# Altium footprint library fci-ffc-fpc.PcbLib: 4 footprints
Each footprint in its own frame and in the unit in brackets; x right, y up, seen from the top. Pads: shape width x height; smd on the part's side, far side on the other; paste and mask are expansions set on the pad; w line width, h text height; cw(c..) or ccw(c..) is an arc to the next point about the centre after c.
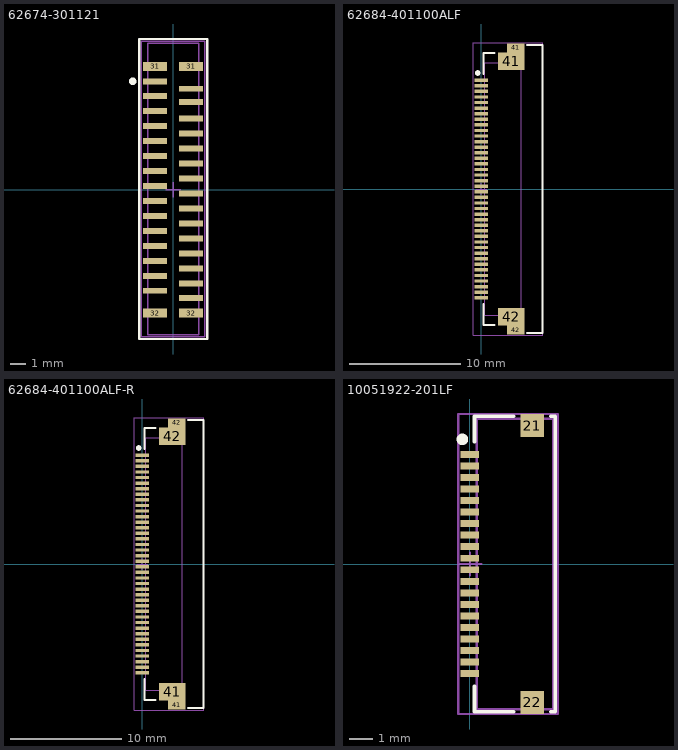
[diagram p0: the footprints below, top view; thin cyan lines are the x and y axes]

## 62674-301121 [mm] "0.5mm pitch Connector for FPC - 30 contacts"
height 1.3
pads (34):
  rect 1.6x0.4 smd: 1(-1.2,7.25) 2(1.2,6.75) 3(-1.2,6.25) 4(1.2,5.85) 5(-1.2,5.25) 6(1.2,4.75) 7(-1.2,4.25) 8(1.2,3.75) 9(-1.2,3.25) 10(1.2,2.75) 11(-1.2,2.25) 12(1.2,1.75) 13(-1.2,1.25) 14(1.2,0.75) 15(-1.2,0.25) 16(1.2,-0.25) 17(-1.2,-0.75) 18(1.2,-1.25) 19(-1.2,-1.75) 20(1.2,-2.25) 21(-1.2,-2.75) 22(1.2,-3.25) 23(-1.2,-3.75) 24(1.2,-4.25) 25(-1.2,-4.75) 26(1.2,-5.25) 27(-1.2,-5.75) 28(1.2,-6.25) 29(-1.2,-6.75) 30(1.2,-7.25)
  rect 1.6x0.6 smd: 31(-1.2,8.25) 31(1.2,8.25) 32(-1.2,-8.25) 32(1.2,-8.25)
Top Overlay:
  circle w0.25: c-2.7,7.25 r0.125
  lines w0.16: -2.275,-9.975 2.275,-9.975 2.275,10.075 -2.275,10.075 -2.275,-9.975
Mechanical 13:
  lines w0.1: -0.5,0 0.5,0 ; 0,-0.5 0,0.5 ; -1.7,-9.7 -1.7,9.8 1.7,9.8 1.7,-9.7 -1.7,-9.7
Mechanical 15:
  lines w0.1: -2.125,-9.825 -2.125,9.925 2.125,9.925 2.125,-9.825 -2.125,-9.825
  text ".Designator" at 0.225,-1.275 h0.5
3D body: height 4.09, standoff -0.01, extent -1.7,-9.75 1.7,9.75

## 62684-401100ALF [mm] "OPU Series, 40 Pos 0.5 mm (0.02 in.) Pitch FPC/FFC Connector, Side Entry, Lower Side Contact, SMT, ZIF"
height 2.6
pads (44):
  rect 1.2x0.3 smd: 1(0,9.75) 2(0,9.25) 3(0,8.75) 4(0,8.25) 5(0,7.75) 6(0,7.25) 7(0,6.75) 8(0,6.25) 9(0,5.75) 10(0,5.25) 11(0,4.75) 12(0,4.25) 13(0,3.75) 14(0,3.25) 15(0,2.75) 16(0,2.25) 17(0,1.75) 18(0,1.25) 19(0,0.75) 20(0,0.25) 21(0,-0.25) 22(0,-0.75) 23(0,-1.25) 24(0,-1.75) 25(0,-2.25) 26(0,-2.75) 27(0,-3.25) 28(0,-3.75) 29(0,-4.25) 30(0,-4.75) 31(0,-5.25) 32(0,-5.75) 33(0,-6.25) 34(0,-6.75) 35(0,-7.25) 36(0,-7.75) 37(0,-8.25) 38(0,-8.75) 39(0,-9.25) 40(0,-9.75)
  rect 2.4x1.6 smd: 41(2.7,11.45) 42(2.7,-11.45)
  rect 1.6x0.8 smd: 41(3.1,12.65) 42(3.1,-12.65)
Top Overlay:
  circle w0.25: c-0.325,10.4 r0.125
  lines w0.16: 0.2,-10.3 0.2,-12.2 1.2,-12.2 ; 0.2,10.3 0.2,12.2 1.2,12.2 ; 4.1,-12.9 5.5,-12.9 5.5,12.9 4.1,12.9
Mechanical 13:
  lines w0.1: -0.5,0 0.5,0 ; 0,-0.5 0,0.5 ; 0.3,-11.3 3.6,-11.3 3.6,11.3 0.3,11.3 0.3,-11.3
Mechanical 15:
  lines w0.1: -0.7,-13.1 5.5,-13.1 5.5,13.1 -0.7,13.1 -0.7,-13.1
  text ".Designator" at 2.4,3.3 h0.5
3D body: height 2.08, standoff 0.02, extent -0.3,-12.75 5.34,12.75

## 62684-401100ALF-R [mm] "OPU Series, 40 Pos 0.5 mm (0.02 in.) Pitch FPC/FFC Connector, Side Entry, Lower Side Contact, SMT, ZIF, Reverse"
height 2.6
pads (44):
  rect 1.2x0.3 smd: 1(0,-9.75) 2(0,-9.25) 3(0,-8.75) 4(0,-8.25) 5(0,-7.75) 6(0,-7.25) 7(0,-6.75) 8(0,-6.25) 9(0,-5.75) 10(0,-5.25) 11(0,-4.75) 12(0,-4.25) 13(0,-3.75) 14(0,-3.25) 15(0,-2.75) 16(0,-2.25) 17(0,-1.75) 18(0,-1.25) 19(0,-0.75) 20(0,-0.25) 21(0,0.25) 22(0,0.75) 23(0,1.25) 24(0,1.75) 25(0,2.25) 26(0,2.75) 27(0,3.25) 28(0,3.75) 29(0,4.25) 30(0,4.75) 31(0,5.25) 32(0,5.75) 33(0,6.25) 34(0,6.75) 35(0,7.25) 36(0,7.75) 37(0,8.25) 38(0,8.75) 39(0,9.25) 40(0,9.75)
  rect 2.4x1.6 smd: 41(2.7,-11.45) 42(2.7,11.45)
  rect 1.6x0.8 smd: 41(3.1,-12.65) 42(3.1,12.65)
Top Overlay:
  circle w0.25: c-0.325,10.4 r0.125
  lines w0.16: 0.2,-10.3 0.2,-12.2 1.2,-12.2 ; 0.2,10.3 0.2,12.2 1.2,12.2 ; 4.1,-12.9 5.5,-12.9 5.5,12.9 4.1,12.9
Mechanical 13:
  lines w0.1: -0.5,0 0.5,0 ; 0,-0.5 0,0.5 ; 0.3,-11.3 0.3,11.3 3.6,11.3 3.6,-11.3 0.3,-11.3
Mechanical 15:
  lines w0.1: -0.7,-13.1 -0.7,13.1 5.5,13.1 5.5,-13.1 -0.7,-13.1
  text ".Designator" at 2.4,3.3 h0.5
3D body: height 2.08, standoff 0.02, extent -0.3,-12.75 5.34,12.75

## 10051922-201LF [mm] "0.5mm pitch Connector for FPC - 20 contacts"
height 1.3
pads (22):
  rect 0.8x0.3 smd: 1(0,4.75) 2(0,4.25) 3(0,3.75) 4(0,3.25) 5(0,2.75) 6(0,2.25) 7(0,1.75) 8(0,1.25) 9(0,0.75) 10(0,0.25) 11(0,-0.25) 12(0,-0.75) 13(0,-1.25) 14(0,-1.75) 15(0,-2.25) 16(0,-2.75) 17(0,-3.25) 18(0,-3.75) 19(0,-4.25) 20(0,-4.75)
  rect 1x1 smd: 21(2.7,6) 22(2.7,-6)
Top Overlay:
  circle w0.25: c-0.325,5.4 r0.125
  lines w0.16: 0.2,-5.3 0.2,-6.4 1.9,-6.4 ; 0.2,5.3 0.2,6.4 1.9,6.4 ; 3.5,-6.4 3.7,-6.4 3.7,6.4 3.5,6.4
Mechanical 13:
  lines w0.1: -0.5,0 0.5,0 ; 0,-0.5 0,0.5 ; 0.3,-6.3 0.3,6.3 3.6,6.3 3.6,-6.3 0.3,-6.3
Mechanical 15:
  lines w0.1: -0.5,-6.5 -0.5,6.5 3.8,6.5 3.8,-6.5 -0.5,-6.5
  text ".Designator" at 2.4,-1.7 h0.5
3D body: height 1.27, standoff -0.03, extent -0.2,-6.25 3.55,6.25